# Altium schematic symbol library Switches.SchLib: 11 symbols
Pins are listed as number, name and electrical type; pins without a type are passive.

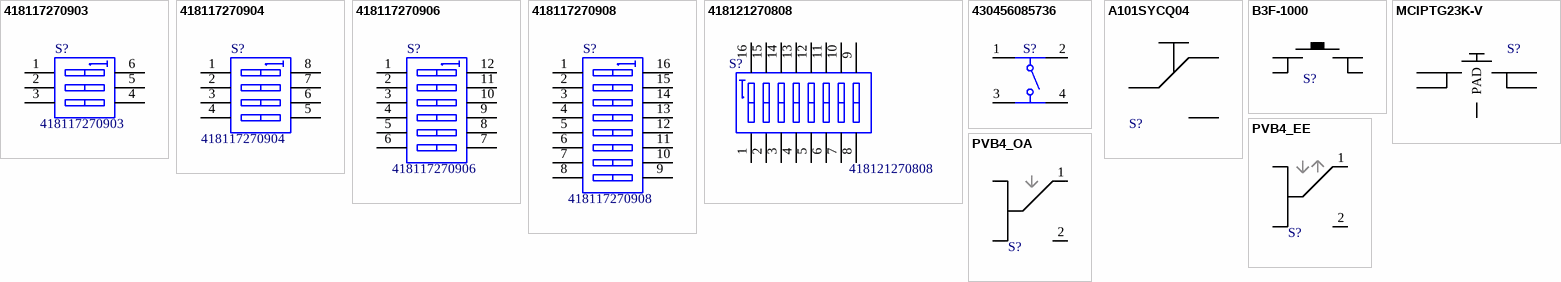
[diagram p0: symbols 418117270903 to PVB4_OA]

## 418117270903
designator S?
3x 2.54 mm Compact THT Dip Switch with Raised Actuator; Manufacturer: Würth Elektronik; Manufacturer Part Number: 418 117 270 903; ComponentLink1URL: http://katalog.we-online.de/em/datasheet/4181172709xx.pdf; ComponentLink1Description: http://katalog.we-online.de/em/datasheet/4181172709xx.pdf; Supplier 1: Digi-Key; Supplier Part Number 1: 732-3833-5-ND
footprint 418117270903 (03p, 2.54mm Pitch, Horizontal, Box Type, THT, raised Actuator, red, without Tape, Tube)
pins: 1, 2, 3, 4, 5, 6

## 418117270904
designator S?
4x 2.54 mm Compact THT Dip Switch with Raised Actuator; Manufacturer: Würth Elektronik; Manufacturer Part Number: 418 117 270 904; ComponentLink1URL: http://katalog.we-online.de/em/datasheet/4181172709xx.pdf; ComponentLink1Description: http://katalog.we-online.de/em/datasheet/4181172709xx.pdf; Supplier 1: Digi-Key; Supplier Part Number 1: 732-3834-5-ND
footprint 418117270904 (04p, 2.54mm Pitch, Horizontal, Box Type, THT, raised Actuator, red, without Tape, Tube)
pins: 1, 2, 3, 4, 5, 6, 7, 8

## 418117270906
designator S?
6x 2.54 mm Compact THT Dip Switch with Raised Actuator; Manufacturer: Würth Elektronik; Manufacturer Part Number: 418 117 270 906; ComponentLink1URL: http://katalog.we-online.de/em/datasheet/4181172709xx.pdf; ComponentLink1Description: http://katalog.we-online.de/em/datasheet/4181172709xx.pdf; Supplier 1: Digi-Key; Supplier Part Number 1: 732-3836-5-ND
footprint 418117270906 (06p, 2.54mm Pitch, Horizontal, Box Type, THT, raised Actuator, red, without Tape, Tube)
pins: 1, 2, 3, 4, 5, 6, 7, 8, 9, 10, 11, 12

## 418117270908
designator S?
8x 2.54 mm Compact THT Dip Switch with Raised Actuator; Manufacturer: Würth Elektronik; Manufacturer Part Number: 418 117 270 908; ComponentLink1URL: http://katalog.we-online.de/em/datasheet/4181172709xx.pdf; ComponentLink1Description: http://katalog.we-online.de/em/datasheet/4181172709xx.pdf; Supplier 1: Digi-Key; Supplier Part Number 1: 732-3838-5-ND
footprint 418117270908 (08p, 2.54mm Pitch, Horizontal, Box Type, THT, raised Actuator, red, without Tape, Tube)
pins: 1, 2, 3, 4, 5, 6, 7, 8, 9, 10, 11, 12, 13, 14, 15, 16

## 418121270808
designator S?
SWITCH SLIDE DIP SPST 25MA 24V; Manufacturer: Wurth Electronics Inc.; Supplier 1: Digi-Key; Supplier Part Number 1: 732-6965-1-ND; Manufacturer Part Number: 418121270808; ComponentLink1URL: http://katalog.we-online.de/em/datasheet/4181212708xx.pdf; ComponentLink1Description: Datasheet
footprint 418121270808 (08p, 2.54mm Pitch, Horizontal, IC Type, SMT, raised Actuator, black, without Tape, T&R)
pins: 1, 2, 3, 4, 5, 6, 7, 8, 9, 10, 11, 12, 13, 14, 15, 16

## 430456085736
designator S?  (value not drawn)
WS-TATV 12x12mm washable Tact Switch, THT version; Manufacturer: Wurth Elektronik; Operation Force: 360g; ComponentLink1Description: Manufacturer; ComponentLink1URL: http://www.we-online.de; ComponentLink2Description: Datasheet; ComponentLink2URL: http://katalog.we-online.de/em/datasheet/4304x60857x6.pdf; Manufacturer Part Number: 430456085736; Published Date: June 2017
footprint 4304x60857x6_12x12x8.5 (12x12mm washable Tact Switch, THT version)
pins: 1, 2, 3, 4

## A101SYCQ04
designator S?, comment SPDT  (value not drawn)
SPDT_ON_ON; Manufacturer: TE CONNECTIVITY / ALCOSWITCH; Manufacturer Part Number: A101SYCQ04; Supplier 1: Farnell; Supplier Part Number 1: 2292959; Pricing: 1=2.95, 25=2.72, 50=2.5, 100=2.28, 250=2.13, 700=1.92, 700=1.73, 4000=1.55 (EUR); ComponentLink1URL: http://www.farnell.com/datasheets/1686054.pdf; ComponentLink1Description: http://www.farnell.com/datasheets/1686054.pdf
footprint A101SYCQ04
pins: 1, 2, 3

## B3F-1000
designator S?  (value not drawn)
Bouton pousoir rouge (simple); Manufacturer: OMRON; Manufacturer Part Number: B3F1006; Supplier 1: Farnell; Supplier Part Number 1: 1960938; Pricing: 1=0.88, 10=0.72, 25=0.6, 50=0.5, 100=0.46, 200=0.414, 200=0.373, 2000=0.263 (EUR); ComponentLink1URL: http://www.farnell.com/datasheets/611570.pdf; ComponentLink1Description: http://www.farnell.com/datasheets/611570.pdf
footprint B3F-1000
pins: 1, 2, 3, 4

## MCIPTG23K-V
designator S?, comment MCITPG  (value not drawn)
Switch MCIPTG23K-V Multicomp; Supplier 1: Farnell; Supplier Part Number 1: 1605470; Manufacturer: MULTICOMP; Manufacturer Part Number: MCIPTG23K-V; Pricing: 1=0.7, 50=0.65, 100=0.61, 500=0.57, 1000=0.53, 7000=0.37, 7000=0.333, 30000=0.3 (EUR); ComponentLink1URL: http://www.farnell.com/cad/1662547.pdf; ComponentLink1Description: http://www.farnell.com/cad/1662547.pdf
footprint MCIPTG23K-V
pins: 1, 2, 3, 4, 5 PAD

## PVB4_EE
designator S?, comment Push On-Push Off  (value not drawn)
PVB4 EE 300 NS LFS; Manufacturer: C & K COMPONENTS; Manufacturer Part Number: PVB4 EE 300 NS LFS; Supplier 1: Farnell; Supplier Part Number 1: 2435330; ComponentLink1Description: http://fr.farnell.com/c-k-components/pvb4-ee-300-ns-lfs/commutateur-bouton-poussoir-spdt/dp/2435330?Ntt=PVB4+EE; ComponentLink1URL: http://www.farnell.com/datasheets/1839888.pdf; Value: Push On-Push Off
footprint PVB4_EE
pins: 1, 2, C1 C2, C2

## PVB4_OA
designator S?, comment Retour ressort momentané  (value not drawn)
PVB4 OA 300 NS LFS; Manufacturer: C & K COMPONENTS; Manufacturer Part Number: PVB4 OA 300 NS LFS; Supplier 1: Farnell; Supplier Part Number 1: 2435331; ComponentLink1Description: http://fr.farnell.com/c-k-components/pvb4-oa-300-ns-lfs/commutateur-bouton-poussoir-spdt/dp/2435331?Ntt=2435331; ComponentLink1URL: http://www.farnell.com/datasheets/1839888.pdf; Value: Retour ressort momentané
footprint PVB4_OA
pins: 1, 2, C1, C2